# EAGLE library part LMC660* (library mita-akiba)
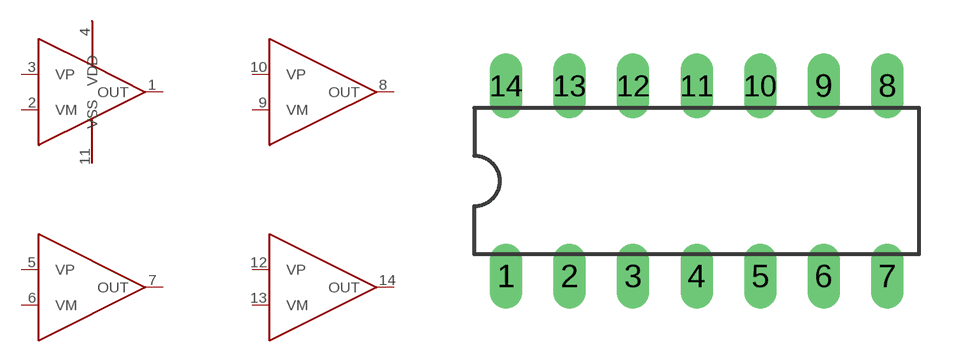
[diagram p36: symbol with the pads of DIL14; footprint DIL14]

Designator prefix -; gates G$1=OPAMPVCCVSS G$2=OPAMP G$3=OPAMP G$4=OPAMP

## LMC660N  [DIL14]
1  G$1:OUT
2  G$1:VM
3  G$1:VP
4  G$1:VDD  pwr
5  G$2:VP
6  G$2:VM
7  G$2:OUT
8  G$3:OUT
9  G$3:VM
10  G$3:VP
11  G$1:VSS  pwr
12  G$4:VP
13  G$4:VM
14  G$4:OUT

## Footprint DIL14 (pad centres in mm)
Dual In Line Package
drill 0.8 long: 1 -7.62,-3.81; 2 -5.08,-3.81; 3 -2.54,-3.81; 4 0,-3.81; 5 2.54,-3.81; 6 5.08,-3.81; 7 7.62,-3.81; 8 7.62,3.81; 9 5.08,3.81; 10 2.54,3.81; 11 0,3.81; 12 -2.54,3.81; 13 -5.08,3.81; 14 -7.62,3.81